# Altium footprint library Photocoupler.PcbLib: 5 footprints
Each footprint in its own frame and in the unit in brackets; x right, y up, seen from the top. Pads: shape width x height; smd on the part's side, far side on the other; paste and mask are expansions set on the pad; w line width, h text height; cw(c..) or ccw(c..) is an arc to the next point about the centre after c.
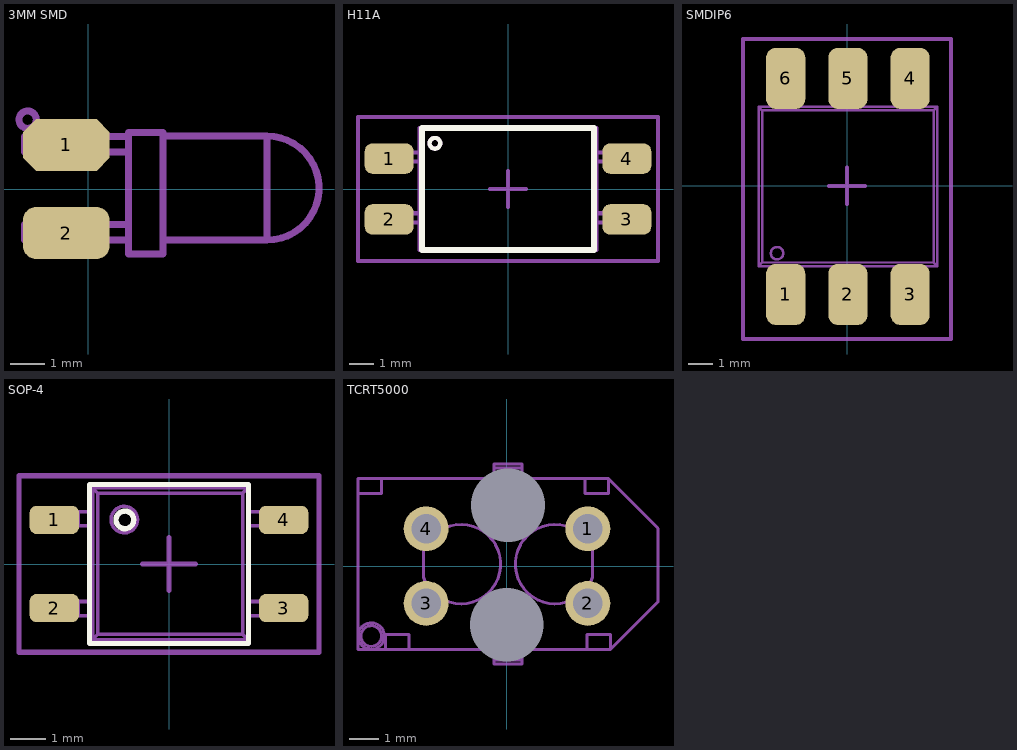
[diagram p0: the footprints below, top view; thin cyan lines are the x and y axes]

## 3MM SMD [mm]
pads (2):
  oct 2.5x1.5 smd: 1(-0.635,1.27)
  rrect50% 2.5x1.5 smd: 2(-0.635,-1.27)
Top Assembly:
  circle w0.2: c-1.75,2 r0.25
  lines w0.2: 1.155,-1.47 -1.845,-1.47 -1.845,-1.02 1.155,-1.02 ; 1.155,1.07 -1.845,1.07 -1.845,1.52 1.155,1.52 ; 2.155,-1.475 5.155,-1.475 ; 2.155,1.525 5.155,1.525 ; 5.155,-1.475 ccw(c5.155,0.025) 5.155,1.525 ; 5.155,-1.475 5.155,1.525 ; 1.155,-1.875 2.155,-1.875 2.155,1.625 1.155,1.625 1.155,-1.875
3D body "CircuitWorks-LED DIP 3MM.step": height 2.15, standoff -1.65, extent -2,-1.9 6.5,1.6

## H11A [mil]
pads (4):
  rrect50% 80x50 smd: 1(-195,50) 2(-195,-50) 3(195,-50) 4(195,50)
Top Overlay:
  circle w7.01: c-120,75 r8.79
  lines w10: -140.75,-100 140.75,-100 140.75,100 -140.75,100 -140.75,-100
Top Assembly:
  circle w7.01: c-120,75 r8.79
  lines w7.01: -145,-55 -190,-55 -190,-40 -145,-40 ; -145,45 -190,45 -190,60 -145,60 ; 145,-55 190,-55 190,-40 145,-40 ; 145,45 190,45 190,60 145,60 ; -145,-100 145,-100 145,100 -145,100 -145,-100
Top Component Outline:
  lines w5.91: -29.53,0 29.53,0 ; 0,-29.53 0,29.53 ; -246.06,-118.11 -246.06,118.11 246.06,118.11 246.06,-118.11 -246.06,-118.11
3D body "User Library-H11A817SD.step": height 220, standoff 0, extent -202.5,-95 202.5,95

## SMDIP6 [mm]
pads (6):
  rrect50% 1.6x2.5 smd: 1(-2.503,-4.431) 2(0.037,-4.431) 3(2.577,-4.431) 4(2.577,4.391) 5(0.037,4.391) 6(-2.503,4.391)
Top Assembly:
  circle w0.1: c-2.854,-2.747 r0.254
  lines w0.1: -3.1,-3.271 -3.1,-3.508 ; -3.1,3.231 -3.1,3.468 ; -1.906,-3.271 -1.906,-3.508 ; -1.906,3.231 -1.906,3.468 ; -0.56,-3.271 -0.56,-3.508 ; -0.56,3.231 -0.56,3.468 ; 0.634,-3.271 0.634,-3.508 ; 0.634,3.231 0.634,3.468 ; 1.98,-3.271 1.98,-3.508 ; 1.98,3.231 1.98,3.468 ; 3.174,-3.271 3.174,-3.508 ; 3.174,3.231 3.174,3.468 ; -3.608,-3.271 3.682,-3.271 ; -3.608,-3.271 -3.464,-3.127 ; -3.608,-3.271 -3.608,3.231 ; -3.608,3.231 3.682,3.231 ; -3.608,3.231 -3.464,3.087 ; -3.464,-3.127 3.537,-3.127 ; -3.464,-3.127 -3.464,3.087 ; -3.464,3.087 3.537,3.087 ; -3.1,-4.431 -3.1,-4.056 ; -3.1,-4.431 -3.1,-5.1 -1.906,-5.1 -1.906,-4.431 ; -3.1,-4.431 -1.906,-4.431 ; -3.1,-4.056 -3.1,-3.884 ; -3.1,-4.056 -1.906,-4.056 ; -3.1,-3.884 -3.1,-3.508 ; -3.1,-3.884 -1.906,-3.884 ; -3.1,-3.508 -1.906,-3.508 ; -3.1,3.468 -3.1,3.844 ; -3.1,3.468 -1.906,3.468 ; -3.1,3.844 -3.1,4.016 ; -3.1,3.844 -1.906,3.844 ; -3.1,4.016 -3.1,4.391 ; -3.1,4.016 -1.906,4.016 ; -3.1,4.391 -3.1,5.06 -1.906,5.06 -1.906,4.391 ; -3.1,4.391 -1.906,4.391 ; -1.906,-4.431 -1.906,-4.056 ; -1.906,-4.056 -1.906,-3.884 ; -1.906,-3.884 -1.906,-3.508 ; -1.906,3.468 -1.906,3.844 ; -1.906,3.844 -1.906,4.016 ; -1.906,4.016 -1.906,4.391 ; -0.56,-4.431 -0.56,-4.056 ; -0.56,-4.431 -0.56,-5.1 0.634,-5.1 0.634,-4.431 ; -0.56,-4.431 0.634,-4.431 ; -0.56,-4.056 -0.56,-3.884 ; -0.56,-4.056 0.634,-4.056 ; -0.56,-3.884 -0.56,-3.508 ; -0.56,-3.884 0.634,-3.884 ; -0.56,-3.508 0.634,-3.508 ; -0.56,3.468 -0.56,3.844 ; -0.56,3.468 0.634,3.468 ; -0.56,3.844 -0.56,4.016 ; -0.56,3.844 0.634,3.844 ; -0.56,4.016 -0.56,4.391 ; -0.56,4.016 0.634,4.016 ; -0.56,4.391 -0.56,5.06 0.634,5.06 0.634,4.391 ; -0.56,4.391 0.634,4.391 ; 0.634,-4.431 0.634,-4.056 ; 0.634,-4.056 0.634,-3.884 ; 0.634,-3.884 0.634,-3.508 ; 0.634,3.468 0.634,3.844 ; 0.634,3.844 0.634,4.016 ; 0.634,4.016 0.634,4.391 ; 1.98,-4.431 1.98,-4.056 ; 1.98,-4.431 1.98,-5.1 3.174,-5.1 3.174,-4.431 ; 1.98,-4.431 3.174,-4.431 ; 1.98,-4.056 1.98,-3.884 ; 1.98,-4.056 3.174,-4.056 ; 1.98,-3.884 1.98,-3.508 ; 1.98,-3.884 3.174,-3.884 ; 1.98,-3.508 3.174,-3.508 ; 1.98,3.468 1.98,3.844 ; 1.98,3.468 3.174,3.468 ; 1.98,3.844 1.98,4.016 ; 1.98,3.844 3.174,3.844 ; 1.98,4.016 1.98,4.391 ; 1.98,4.016 3.174,4.016 ; 1.98,4.391 1.98,5.06 3.174,5.06 3.174,4.391 ; 1.98,4.391 3.174,4.391 ; 3.174,-4.431 3.174,-4.056 ; 3.174,-4.056 3.174,-3.884 ; 3.174,-3.884 3.174,-3.508 ; 3.174,3.468 3.174,3.844 ; 3.174,3.844 3.174,4.016 ; 3.174,4.016 3.174,4.391 ; 3.537,-3.127 3.537,3.087 ; 3.537,-3.127 3.682,-3.271 ; 3.537,3.087 3.682,3.231 ; 3.682,-3.271 3.682,3.231
Top Component Outline:
  lines w0.15: -0.75,0 0.75,0 ; 0,-0.75 0,0.75 ; -4.25,-6.25 -4.25,6 4.25,6 4.25,-6.25 -4.25,-6.25
3D body "User Library-6-SMD.step": height 3.51, standoff -0.1, extent -3.69,-5.18 3.6,4.98

## SOP-4 [mm]
pads (4):
  rrect50% 1.4x0.8 smd: 1(-3.25,1.25) 2(-3.25,-1.25) 3(3.25,-1.25) 4(3.25,1.25)
Top Overlay:
  circle w0.15: c-1.25,1.25 r0.25
  lines w0.15: -2.25,-2.25 -2.25,2.25 2.25,2.25 2.25,-2.25 -2.25,-2.25
Top Assembly:
  circle w0.1: c-1.267,1.258 r0.375
  lines w0.1: -3.017,-1.462 -2.867,-1.462 ; -3.017,-1.462 -3.367,-1.462 -3.367,-1.062 -3.017,-1.062 ; -3.017,-1.462 -3.017,-1.062 ; -3.017,-1.062 -2.867,-1.062 ; -3.017,1.078 -2.867,1.078 ; -3.017,1.078 -3.367,1.078 -3.367,1.478 -3.017,1.478 ; -3.017,1.078 -3.017,1.478 ; -3.017,1.478 -2.867,1.478 ; -2.867,-1.462 -2.867,-1.062 ; -2.867,-1.462 -2.567,-1.462 ; -2.867,-1.062 -2.567,-1.062 ; -2.867,1.078 -2.867,1.478 ; -2.867,1.078 -2.567,1.078 ; -2.867,1.478 -2.567,1.478 ; -2.567,-1.462 -2.167,-1.462 -2.167,-1.062 -2.567,-1.062 ; -2.567,-1.462 -2.567,-1.062 ; -2.567,1.078 -2.167,1.078 -2.167,1.478 -2.567,1.478 ; -2.567,1.078 -2.567,1.478 ; -2.167,-2.142 -2.017,-1.992 ; -2.167,-2.142 -2.167,2.158 ; -2.167,-2.142 2.233,-2.142 ; -2.167,2.158 -2.017,2.008 ; -2.167,2.158 2.233,2.158 ; -2.017,-1.992 -2.017,2.008 ; -2.017,-1.992 2.083,-1.992 ; -2.017,2.008 2.083,2.008 ; 2.083,-1.992 2.233,-2.142 ; 2.083,-1.992 2.083,2.008 ; 2.083,2.008 2.233,2.158 ; 2.233,-2.142 2.233,2.158 ; 2.633,-1.462 2.233,-1.462 2.233,-1.062 2.633,-1.062 ; 2.633,-1.462 2.933,-1.462 ; 2.633,-1.462 2.633,-1.062 ; 2.633,-1.062 2.933,-1.062 ; 2.633,1.078 2.233,1.078 2.233,1.478 2.633,1.478 ; 2.633,1.078 2.933,1.078 ; 2.633,1.078 2.633,1.478 ; 2.633,1.478 2.933,1.478 ; 2.933,-1.462 2.933,-1.062 ; 2.933,-1.462 3.083,-1.462 ; 2.933,-1.062 3.083,-1.062 ; 2.933,1.078 2.933,1.478 ; 2.933,1.078 3.083,1.078 ; 2.933,1.478 3.083,1.478 ; 3.083,-1.462 3.433,-1.462 3.433,-1.062 3.083,-1.062 ; 3.083,-1.462 3.083,-1.062 ; 3.083,1.078 3.433,1.078 3.433,1.478 3.083,1.478 ; 3.083,1.078 3.083,1.478
Top Component Outline:
  lines w0.15: -0.75,0 0.75,0 ; 0,-0.75 0,0.75 ; -4.25,-2.5 -4.25,2.5 4.25,2.5 4.25,-2.5 -4.25,-2.5
3D body "User Library-4-SOP.STEP": height 2.1, standoff 0, extent -3.4,-2.15 3.4,2.15

## TCRT5000 [mm]
height 18
pads (6):
  round 0 hole 2.5: 0(0,-2) 0(0.035,2.07)
  round 1.524 hole 1: 1(2.75,1.27) 2(2.75,-1.27) 3(-2.75,-1.27) 4(-2.75,1.27)
Top Assembly:
  circle w0.1: c-4.615,-2.38 r0.35
  circle w0.1: c-4.615,-2.38 r0.45
  lines w0.1: -0.44,-2.83 -0.69,-2.83 ; -0.44,2.97 -0.69,2.97 ; 0.51,-2.83 0.76,-2.83 ; 0.51,2.97 0.76,2.97 ; -5.065,2.47 -5.065,-2.38 -5.065,-2.83 -4.615,-2.83 -4.126,-2.83 ; -5.065,2.47 -5.065,2.97 -4.265,2.97 ; -5.065,2.47 -4.265,2.47 -4.265,2.97 ; -4.265,2.97 -0.69,2.97 ; -4.126,-2.83 -3.326,-2.83 ; -4.126,-2.83 -4.126,-2.33 -3.326,-2.33 -3.326,-2.83 ; -3.326,-2.83 -0.69,-2.83 ; -0.69,-2.83 -0.69,-1.33 -0.44,-1.33 -0.44,-1.63 ; -0.69,2.97 -0.69,1.47 -0.44,1.47 -0.44,1.77 ; -0.44,-3.194 0.51,-3.194 ; -0.44,-3.194 -0.44,-3.33 0.51,-3.33 0.51,-3.194 ; -0.44,-3.194 -0.44,-2.434 ; -0.44,-2.434 0.51,-2.434 ; -0.44,-2.434 -0.44,-2.27 ; -0.44,-2.27 0.51,-2.27 ; -0.44,-2.27 -0.44,-1.93 ; -0.44,-1.93 0.51,-1.93 ; -0.44,-1.93 -0.44,-1.63 ; -0.44,-1.63 0.51,-1.63 ; -0.44,1.77 -0.44,2.07 ; -0.44,1.77 0.51,1.77 ; -0.44,2.07 0.51,2.07 ; -0.44,2.07 -0.44,2.41 ; -0.44,2.41 0.51,2.41 ; -0.44,2.41 -0.44,2.574 ; -0.44,2.574 0.51,2.574 ; -0.44,2.574 -0.44,3.334 ; -0.44,3.334 0.51,3.334 ; -0.44,3.334 -0.44,3.47 0.51,3.47 0.51,3.334 ; 0.51,-3.194 0.51,-2.434 ; 0.51,-2.434 0.51,-2.27 ; 0.51,-2.27 0.51,-1.93 ; 0.51,-1.93 0.51,-1.63 ; 0.51,-1.63 0.51,-1.33 0.76,-1.33 0.76,-2.83 ; 0.51,1.77 0.51,1.47 0.76,1.47 0.76,2.97 ; 0.51,1.77 0.51,2.07 ; 0.51,2.07 0.51,2.41 ; 0.51,2.41 0.51,2.574 ; 0.51,2.574 0.51,3.334 ; 0.76,-2.83 2.722,-2.83 ; 0.76,2.97 2.648,2.97 ; 2.648,2.97 3.448,2.97 ; 2.648,2.97 2.648,2.47 3.448,2.47 3.448,2.97 ; 2.722,-2.83 3.522,-2.83 ; 2.722,-2.83 2.722,-2.33 3.522,-2.33 3.522,-2.83 ; 3.448,2.97 5.135,1.283 5.135,-1.217 3.522,-2.83 ; -2.838,-0.383 ccw(c-1.565,0.066) -2.568,-0.838 -2.439,-0.8 -2.309,-0.915 -2.309,-1.061 ccw(c-1.565,0.066) -2.294,1.203 -2.294,1.041 -2.439,0.932 -2.573,0.964 ccw(c-1.565,0.066) -2.838,0.515 -2.838,-0.383 ; 2.364,1.041 2.364,1.203 ccw(c1.635,0.066) 2.379,-1.061 2.379,-0.915 2.509,-0.8 2.638,-0.838 ccw(c1.635,0.066) 2.908,-0.383 2.908,0.515 ccw(c1.635,0.066) 2.643,0.964 2.509,0.932 2.364,1.041
3D body "User Library-corpo TCRT 5000.step": height 9, standoff -1.5, extent -5.065,-3.4 5.135,3.4